# Altium schematic symbol library 204-211ST.Schlib: 1 symbol
Pins are listed as number, name and electrical type; pins without a type are passive.

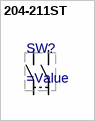
[diagram p0: symbol 204-211ST]

## 204-211ST
designator SW?
SWITCH DIP DPST 1POS SMT
pins: 1, 2, 3, 4